# Altium footprint library PIC18F15Q41-ESO.PcbLib: 3 footprints
Each footprint in its own frame and in the unit in brackets; x right, y up, seen from the top. Pads: shape width x height; smd on the part's side, far side on the other; paste and mask are expansions set on the pad; w line width, h text height; cw(c..) or ccw(c..) is an arc to the next point about the centre after c.
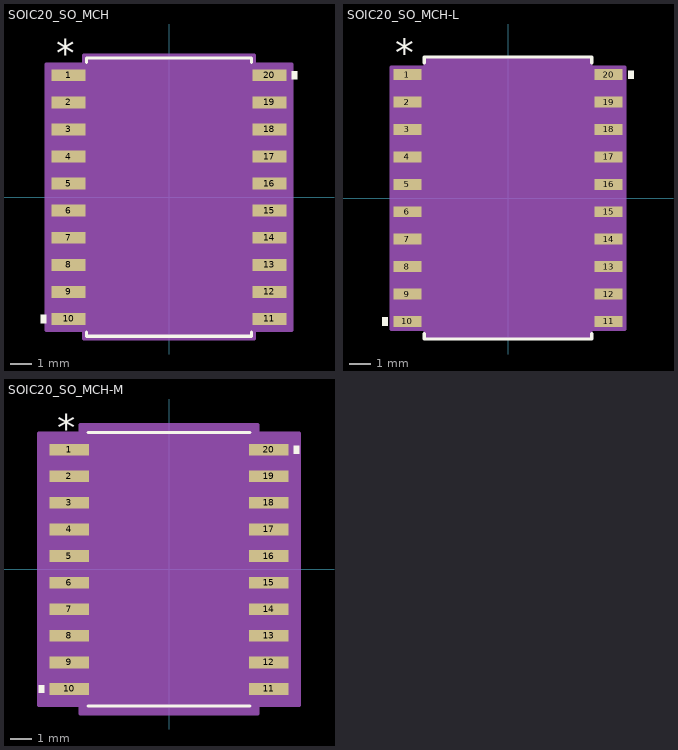
[diagram p0: the footprints below, top view; thin cyan lines are the x and y axes]

## SOIC20_SO_MCH [mil]
pads (20):
  rect 63x22 smd paste+0 mask+0: 1(-185.5,225) 2(-185.5,175) 3(-185.5,125) 4(-185.5,75) 5(-185.5,25) 6(-185.5,-25) 7(-185.5,-75) 8(-185.5,-125) 9(-185.5,-175) 10(-185.5,-225) 11(185.5,-225) 12(185.5,-175) 13(185.5,-125) 14(185.5,-75) 15(185.5,-25) 16(185.5,25) 17(185.5,75) 18(185.5,125) 19(185.5,175) 20(185.5,225)
Top Overlay:
  region: -227,-217.5 -237,-217.5 -237,-232.5 -227,-232.5
  region: 227,232.5 237,232.5 237,217.5 227,217.5
  lines w6: -152.5,-249.01 -152.5,-257 152.5,-257 152.5,-249.01 ; -152.5,249.01 -152.5,257 152.5,257 152.5,249.01
  text "*" at -208,242 h50
Mechanical 13:
  lines w0: -12,252 ccw(c0,252) 12,252
  lines w1: -203,-235 -203,-215 -147.5,-215 -147.5,-235 -203,-235 ; -203,-185 -203,-165 -147.5,-165 -147.5,-185 -203,-185 ; -203,-135 -203,-115 -147.5,-115 -147.5,-135 -203,-135 ; -203,-85 -203,-65 -147.5,-65 -147.5,-85 -203,-85 ; -203,-35 -203,-15 -147.5,-15 -147.5,-35 -203,-35 ; -203,15 -203,35 -147.5,35 -147.5,15 -203,15 ; -203,65 -203,85 -147.5,85 -147.5,65 -203,65 ; -203,115 -203,135 -147.5,135 -147.5,115 -203,115 ; -203,165 -203,185 -147.5,185 -147.5,165 -203,165 ; -203,215 -203,235 -147.5,235 -147.5,215 -203,215 ; -147.5,-252 147.5,-252 147.5,252 -147.5,252 -147.5,-252 ; 147.5,-235 147.5,-215 203,-215 203,-235 147.5,-235 ; 147.5,-185 147.5,-165 203,-165 203,-185 147.5,-185 ; 147.5,-135 147.5,-115 203,-115 203,-135 147.5,-135 ; 147.5,-85 147.5,-65 203,-65 203,-85 147.5,-85 ; 147.5,-35 147.5,-15 203,-15 203,-35 147.5,-35 ; 147.5,15 147.5,35 203,35 203,15 147.5,15 ; 147.5,65 147.5,85 203,85 203,65 147.5,65 ; 147.5,115 147.5,135 203,135 203,115 147.5,115 ; 147.5,165 147.5,185 203,185 203,165 147.5,165 ; 147.5,215 147.5,235 203,235 203,215 147.5,215
  text "*" at -145,199 h50
Mechanical 15:
  region: -157.5,-246 -227,-246 -227,246 -157.5,246 -157.5,262 157.5,262 157.5,246 227,246 227,-246 157.5,-246 157.5,-262 -157.5,-262
  lines w6: -227,-246 -227,246 -157.5,246 -157.5,262 157.5,262 157.5,246 227,246 227,-246 157.5,-246 157.5,-262 -157.5,-262 -157.5,-246 -227,-246
3D body "SOIC20_SO_MCH.step": height 104.09, standoff 0, extent -202.99,-252.01 202.99,252.01

## SOIC20_SO_MCH-L [mil]
pads (20):
  rect 51x20 smd paste+0 mask+0: 1(-183.5,225) 2(-183.5,175) 3(-183.5,125) 4(-183.5,75) 5(-183.5,25) 6(-183.5,-25) 7(-183.5,-75) 8(-183.5,-125) 9(-183.5,-175) 10(-183.5,-225) 11(183.5,-225) 12(183.5,-175) 13(183.5,-125) 14(183.5,-75) 15(183.5,-25) 16(183.5,25) 17(183.5,75) 18(183.5,125) 19(183.5,175) 20(183.5,225)
Top Overlay:
  region: -219,-217.5 -229,-217.5 -229,-232.5 -219,-232.5
  region: 219,232.5 229,232.5 229,217.5 219,217.5
  lines w6: -152.5,-246.89 -152.5,-257 152.5,-257 152.5,-246.89 ; -152.5,246.89 -152.5,257 152.5,257 152.5,246.89
  text "*" at -206,240 h50
Mechanical 13:
  lines w0: -12,252 ccw(c0,252) 12,252
  lines w1: -203,-235 -203,-215 -147.5,-215 -147.5,-235 -203,-235 ; -203,-185 -203,-165 -147.5,-165 -147.5,-185 -203,-185 ; -203,-135 -203,-115 -147.5,-115 -147.5,-135 -203,-135 ; -203,-85 -203,-65 -147.5,-65 -147.5,-85 -203,-85 ; -203,-35 -203,-15 -147.5,-15 -147.5,-35 -203,-35 ; -203,15 -203,35 -147.5,35 -147.5,15 -203,15 ; -203,65 -203,85 -147.5,85 -147.5,65 -203,65 ; -203,115 -203,135 -147.5,135 -147.5,115 -203,115 ; -203,165 -203,185 -147.5,185 -147.5,165 -203,165 ; -203,215 -203,235 -147.5,235 -147.5,215 -203,215 ; -147.5,-252 147.5,-252 147.5,252 -147.5,252 -147.5,-252 ; 147.5,-235 147.5,-215 203,-215 203,-235 147.5,-235 ; 147.5,-185 147.5,-165 203,-165 203,-185 147.5,-185 ; 147.5,-135 147.5,-115 203,-115 203,-135 147.5,-135 ; 147.5,-85 147.5,-65 203,-65 203,-85 147.5,-85 ; 147.5,-35 147.5,-15 203,-15 203,-35 147.5,-35 ; 147.5,15 147.5,35 203,35 203,15 147.5,15 ; 147.5,65 147.5,85 203,85 203,65 147.5,65 ; 147.5,115 147.5,135 203,135 203,115 147.5,115 ; 147.5,165 147.5,185 203,185 203,165 147.5,165 ; 147.5,215 147.5,235 203,235 203,215 147.5,215
  text "*" at -145,199 h50
Mechanical 15:
  region: -151.5,-239 -213,-239 -213,239 -151.5,239 -151.5,256 151.5,256 151.5,239 213,239 213,-239 151.5,-239 151.5,-256 -151.5,-256
  lines w6: -213,-239 -213,239 -151.5,239 -151.5,256 151.5,256 151.5,239 213,239 213,-239 151.5,-239 151.5,-256 -151.5,-256 -151.5,-239 -213,-239
3D body "SOIC20_SO_MCH.step": height 104.09, standoff 0, extent -202.99,-252.01 202.99,252.01

## SOIC20_SO_MCH-M [mil]
pads (20):
  rect 75x22 smd paste+0 mask+0: 1(-187.5,225) 2(-187.5,175) 3(-187.5,125) 4(-187.5,75) 5(-187.5,25) 6(-187.5,-25) 7(-187.5,-75) 8(-187.5,-125) 9(-187.5,-175) 10(-187.5,-225) 11(187.5,-225) 12(187.5,-175) 13(187.5,-125) 14(187.5,-75) 15(187.5,-25) 16(187.5,25) 17(187.5,75) 18(187.5,125) 19(187.5,175) 20(187.5,225)
Top Overlay:
  region: -235,-217.5 -245,-217.5 -245,-232.5 -235,-232.5
  region: 235,232.5 245,232.5 245,217.5 235,217.5
  lines w6: -152.5,-257 152.5,-257 ; -152.5,257 152.5,257
  text "*" at -210,242 h50
Mechanical 13:
  lines w0: -12,252 ccw(c0,252) 12,252
  lines w1: -203,-235 -203,-215 -147.5,-215 -147.5,-235 -203,-235 ; -203,-185 -203,-165 -147.5,-165 -147.5,-185 -203,-185 ; -203,-135 -203,-115 -147.5,-115 -147.5,-135 -203,-135 ; -203,-85 -203,-65 -147.5,-65 -147.5,-85 -203,-85 ; -203,-35 -203,-15 -147.5,-15 -147.5,-35 -203,-35 ; -203,15 -203,35 -147.5,35 -147.5,15 -203,15 ; -203,65 -203,85 -147.5,85 -147.5,65 -203,65 ; -203,115 -203,135 -147.5,135 -147.5,115 -203,115 ; -203,165 -203,185 -147.5,185 -147.5,165 -203,165 ; -203,215 -203,235 -147.5,235 -147.5,215 -203,215 ; -147.5,-252 147.5,-252 147.5,252 -147.5,252 -147.5,-252 ; 147.5,-235 147.5,-215 203,-215 203,-235 147.5,-235 ; 147.5,-185 147.5,-165 203,-165 203,-185 147.5,-185 ; 147.5,-135 147.5,-115 203,-115 203,-135 147.5,-135 ; 147.5,-85 147.5,-65 203,-65 203,-85 147.5,-85 ; 147.5,-35 147.5,-15 203,-15 203,-35 147.5,-35 ; 147.5,15 147.5,35 203,35 203,15 147.5,15 ; 147.5,65 147.5,85 203,85 203,65 147.5,65 ; 147.5,115 147.5,135 203,135 203,115 147.5,115 ; 147.5,165 147.5,185 203,185 203,165 147.5,165 ; 147.5,215 147.5,235 203,235 203,215 147.5,215
  text "*" at -145,199 h50
Mechanical 15:
  region: -167.5,-256 -245,-256 -245,256 -167.5,256 -167.5,272 167.5,272 167.5,256 245,256 245,-256 167.5,-256 167.5,-272 -167.5,-272
  lines w6: -245,-256 -245,256 -167.5,256 -167.5,272 167.5,272 167.5,256 245,256 245,-256 167.5,-256 167.5,-272 -167.5,-272 -167.5,-256 -245,-256
3D body "SOIC20_SO_MCH.step": height 104.09, standoff 0, extent -202.99,-252.01 202.99,252.01